# Altium schematic symbol library Contact group Gost.SchLib: 23 symbols
Pins are listed as number, name and electrical type; pins without a type are passive.

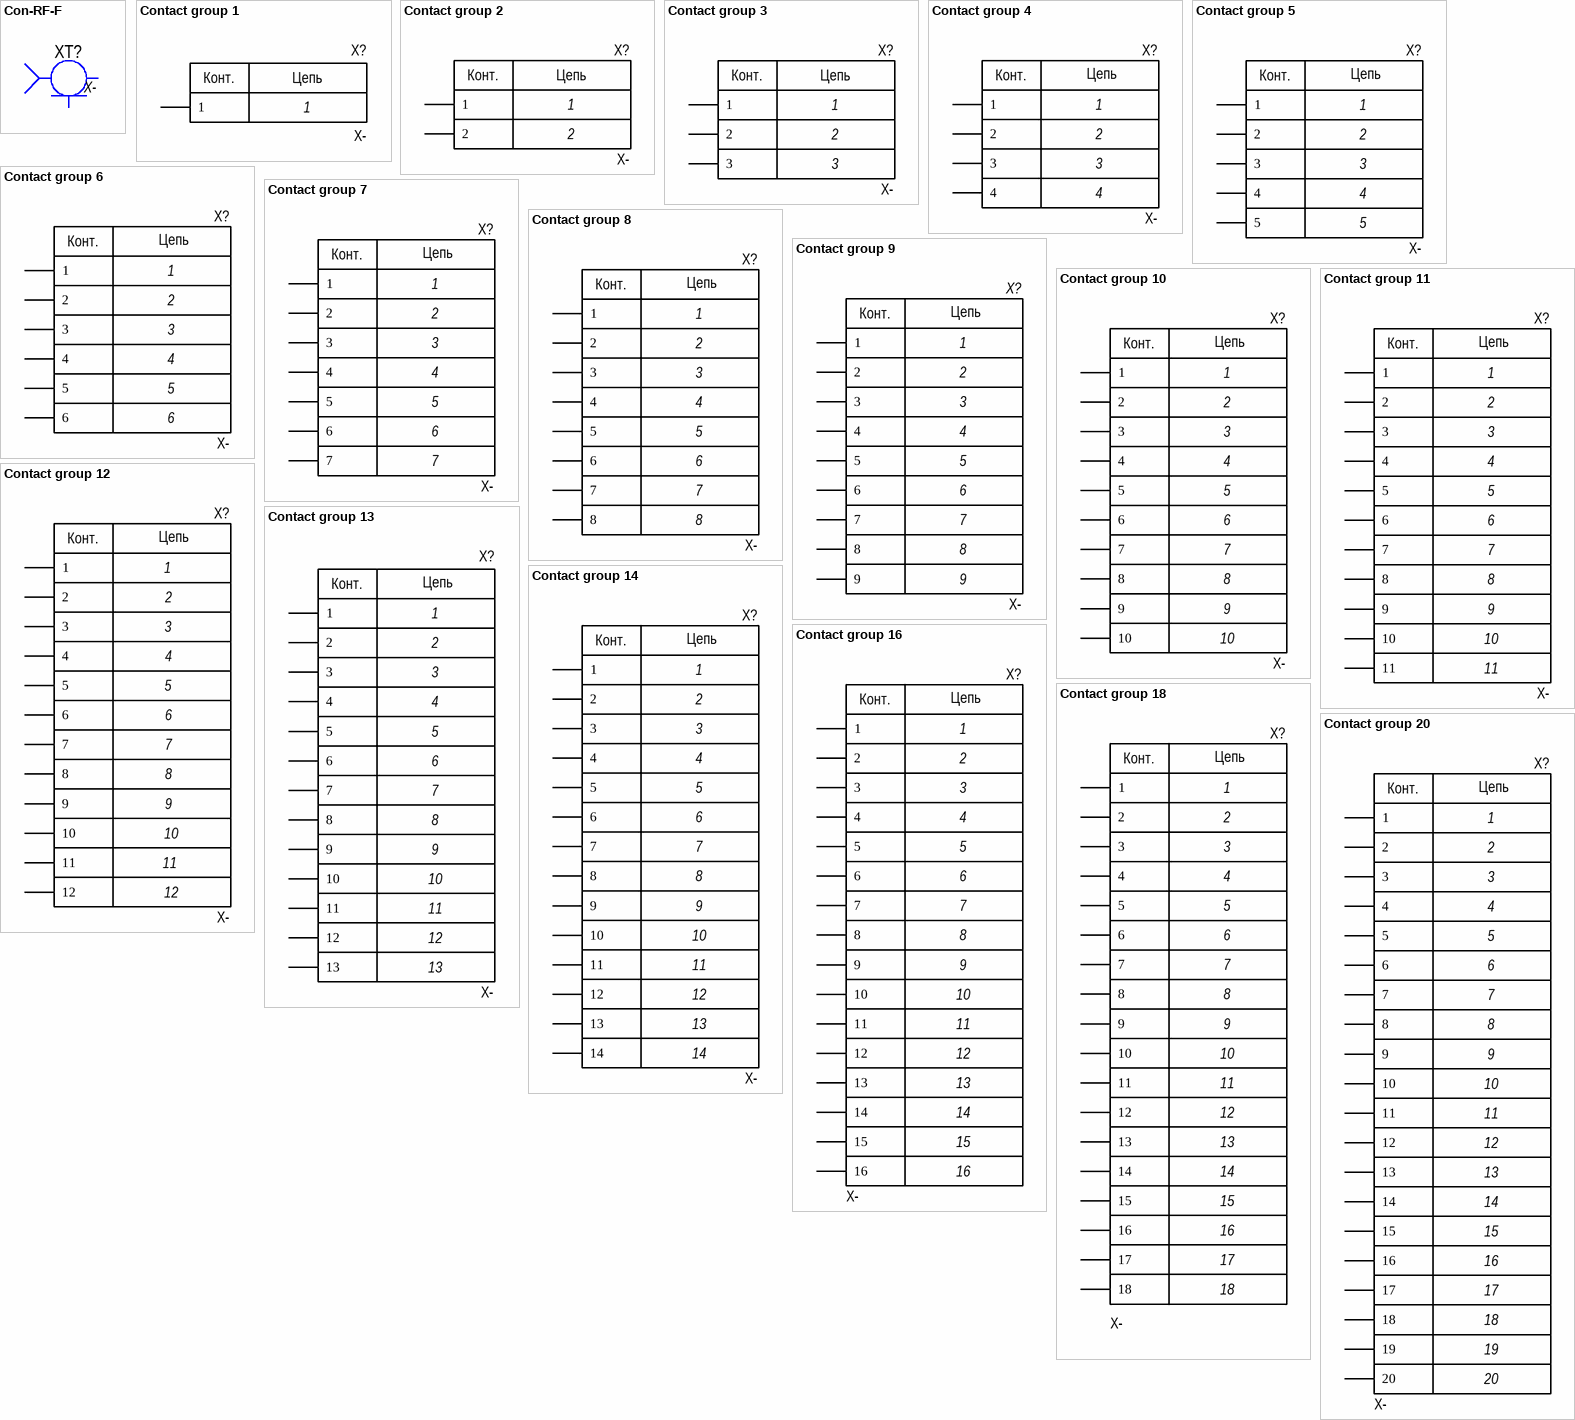
[diagram p0: symbols Con-RF-F to Contact group 20]

## Con-RF-F
designator XT?, comment X-
Mount_Type: Hand; STC_Type: Разъём; Type: Розетка; STC_Name: X-
footprint U.FL-R-SMT (U.FL SMT connector (Hirose))
footprint 70101511000
footprint SMA_TB
footprint SMA_TH_H
footprint SMA_TH_V
footprint SMA-901-10510-2
pins: 1 "Signal", 2 "Ground"

## Contact group 1
designator X?, comment X-  Parameter 1: 1
Mount_Type: Hand; STC_Type: Разъём; STC_Name: X-
pins: 1
text: Конт.; Цепь

## Contact group 2
designator X?, comment X-  Parameter 2: 2  Parameter 1: 1
Mount_Type: Hand; STC_Type: Разъём; STC_Name: X-
footprint MOLEX_353630260
footprint Wire_to_board x2
footprint XT60PW-M
footprint XT90PW-M
footprint XT60-M
footprint Molex_43650-0200
footprint XT30PW-M
footprint Nano-Fit 105313-1202
footprint Molex_35362-0250
footprint Molex-22057025
footprint Molex_105309-1102
footprint Molex_206832-0201
footprint JST-B02B-PASK-1
footprint Molex_MiniFit_172448-0002
footprint Molex_105313-1202
footprint XT30-M
footprint DF51KB-2P2-DS(805)
footprint 2EDGR-5.08-02P-14-00AH
pins: 1, 2
text: Конт.; Цепь

## Contact group 3
designator X?, comment X-  Parameter 3: 3  Parameter 2: 2  Parameter 1: 1
Mount_Type: Hand; STC_Type: Разъём; STC_Name: X-
footprint Wire_to_board x3
footprint Molex_35363-0360
footprint Molex_35363-0360 v2
footprint DF51K-3P-2DSA(805)
pins: 1, 2, 3
text: Конт.; Цепь

## Contact group 4
designator X?, comment X-  Parameter 4: 4  Parameter 3: 3  Parameter 2: 2  Parameter 1: 1
Mount_Type: Hand; STC_Type: Разъём; STC_Name: X-
footprint Molex_353630460
footprint Wire_to_board x4
footprint Molex_43650-0400
footprint Molex_43045-0423
footprint Nano-Fit 1053141304
footprint JST-B04B-PASK-1
footprint Molex_35362-0450
footprint JST-S04B-PASK-2
footprint PLD-4R
footprint Molex_105314-1204
footprint BM03B-AUHKS-GA-TB
footprint Molex_43045-0400/01/02/10
footprint DF51K-4P-2DS(805)
footprint DF51K-4P-2DSA(805)
footprint PLD-4
pins: 1, 2, 3, 4
text: Конт.; Цепь

## Contact group 5
designator X?, comment X-  Parameter 5: 5  Parameter 4: 4  Parameter 3: 3  Parameter 2: 2  Parameter 1: 1
Mount_Type: Hand; STC_Type: Разъём; STC_Name: X-
pins: 1, 2, 3, 4, 5
text: Конт.; Цепь

## Contact group 6
designator X?, comment X-  Parameter 6: 6  Parameter 5: 5  Parameter 4: 4  Parameter 3: 3  Parameter 2: 2  Parameter 1: 1
Mount_Type: Hand; STC_Type: Разъём; STC_Name: X-
footprint Molex_76829-0006
footprint Molex_87427-0602
footprint Molex_105314-1206
footprint Molex_353630660
footprint MINIUSB-DS1104
footprint plld-1.27-6s
footprint plld-2.54-6s
footprint G125-MH10605L1P
pins: 1, 2, 3, 4, 5, 6
text: Конт.; Цепь

## Contact group 7
designator X?, comment X-  Parameter 7: 7  Parameter 6: 6  Parameter 5: 5  Parameter 4: 4  Parameter 3: 3  Parameter 2: 2  Parameter 1: 1
Mount_Type: Hand; STC_Type: Разъём; STC_Name: X-
footprint PLS-7
pins: 1, 2, 3, 4, 5, 6, 7
text: Конт.; Цепь

## Contact group 8
designator X?, comment X-  Parameter 8: 8  Parameter 7: 7  Parameter 6: 6  Parameter 5: 5  Parameter 4: 4  Parameter 3: 3  Parameter 2: 2  Parameter 1: 1
Mount_Type: Hand; STC_Type: Разъём; STC_Name: X-
footprint Molex_35363-0860
footprint Molex_105314-1208
footprint MOLEX_MiniFit-2x4P
pins: 1, 2, 3, 4, 5, 6, 7, 8
text: Конт.; Цепь

## Contact group 9
designator X?, comment X-  Parameter 9: 9  Parameter 8: 8  Parameter 7: 7  Parameter 6: 6  Parameter 5: 5  Parameter 4: 4  Parameter 3: 3  Parameter 2: 2  Parameter 1: 1
Mount_Type: Hand; STC_Type: Разъём; STC_Name: X-
pins: 1, 2, 3, 4, 5, 6, 7, 8, 9
text: Конт.; Цепь

## Contact group 10
designator X?, comment X-  Parameter 9: 9  Parameter 8: 8  Parameter 7: 7  Parameter 6: 6  Parameter 5: 5  Parameter 4: 4  Parameter 3: 3  Parameter 2: 2  Parameter 10: 10  Parameter 1: 1
Mount_Type: Hand; STC_Type: Разъём; STC_Name: X-
footprint Molex_35363-1060
footprint BH-10 (DS1013-10S)
footprint MOLEX_MiniFit-2x10P
footprint Molex_105314-1210
footprint DF51K-10DP-2DSA(805)
pins: 1, 2, 3, 4, 5, 6, 7, 8, 9, 10
text: Конт.; Цепь

## Contact group 11
designator X?, comment X-  Parameter 11: 11  Parameter 9: 9  Parameter 8: 8  Parameter 7: 7  Parameter 6: 6  Parameter 5: 5  Parameter 4: 4  Parameter 3: 3  Parameter 2: 2  Parameter 10: 10  Parameter 1: 1
Mount_Type: Hand; STC_Type: Разъём; STC_Name: X-
pins: 1, 2, 3, 4, 5, 6, 7, 8, 9, 10, 11
text: Конт.; Цепь

## Contact group 12
designator X?, comment X-  Parameter 1: 1  Parameter 2: 2  Parameter 3: 3  Parameter 4: 4  Parameter 5: 5  Parameter 6: 6  Parameter 7: 7  Parameter 8: 8  Parameter 9: 9  Parameter 10: 10  Parameter 11: 11  Parameter 12: 12
Mount_Type: Hand; STC_Type: Разъём; STC_Name: X-
footprint MOLEX_87427-1202
footprint Molex_35363-1260
pins: 1, 2, 3, 4, 5, 6, 7, 8, 9, 10, 11, 12
text: Конт.; Цепь

## Contact group 13
designator X?, comment X-  Parameter 1: 1  Parameter 2: 2  Parameter 3: 3  Parameter 4: 4  Parameter 5: 5  Parameter 6: 6  Parameter 7: 7  Parameter 8: 8  Parameter 9: 9  Parameter 10: 10  Parameter 11: 11  Parameter 12: 12  Parameter 13: 13
Mount_Type: Hand; STC_Type: Разъём; STC_Name: X-
pins: 1, 2, 3, 4, 5, 6, 7, 8, 9, 10, 11, 12, 13
text: Конт.; Цепь

## Contact group 14
designator X?, comment X-  Parameter 14: 14  Parameter 13: 13  Parameter 12: 12  Parameter 11: 11  Parameter 9: 9  Parameter 8: 8  Parameter 7: 7  Parameter 6: 6  Parameter 5: 5  Parameter 4: 4  Parameter 3: 3  Parameter 2: 2  Parameter 10: 10  Parameter 1: 1
Mount_Type: Hand; STC_Type: Разъём; STC_Name: X-
footprint MOLEX_MiniFit-2x7P
footprint PLD-14
pins: 1, 2, 3, 4, 5, 6, 7, 8, 9, 10, 11, 12, 13, 14
text: Конт.; Цепь

## Contact group 16
designator X?, comment X-  Parameter 16: 16  Parameter 15: 15  Parameter 14: 14  Parameter 13: 13  Parameter 12: 12  Parameter 11: 11  Parameter 9: 9  Parameter 8: 8  Parameter 7: 7  Parameter 6: 6  Parameter 5: 5  Parameter 4: 4  Parameter 3: 3  Parameter 2: 2  Parameter 10: 10  Parameter 1: 1
Mount_Type: Hand; STC_Type: Разъём; STC_Name: X-
footprint MOLEX_MiniFit-2x8P
pins: 1, 2, 3, 4, 5, 6, 7, 8, 9, 10, 11, 12, 13, 14, 15, 16
text: Конт.; Цепь

## Contact group 18
designator X?, comment X-  Parameter 16: 16  Parameter 17: 17  Parameter 18: 18  Parameter 15: 15  Parameter 14: 14  Parameter 13: 13  Parameter 12: 12  Parameter 11: 11  Parameter 9: 9  Parameter 8: 8  Parameter 7: 7  Parameter 6: 6  Parameter 5: 5  Parameter 4: 4  Parameter 3: 3  Parameter 2: 2  Parameter 10: 10  Parameter 1: 1
Mount_Type: Hand; STC_Type: Разъём; STC_Name: X-
footprint Molex_901301218
pins: 1, 2, 3, 4, 5, 6, 7, 8, 9, 10, 11, 12, 13, 14, 15, 16, 17, 18
text: Конт.; Цепь

## Contact group 20
designator X?, comment X-  Parameter 16: 16  Parameter 17: 17  Parameter 18: 18  Parameter 19: 19  Parameter 20: 20  Parameter 15: 15  Parameter 14: 14  Parameter 13: 13  Parameter 12: 12  Parameter 11: 11  Parameter 9: 9  Parameter 8: 8  Parameter 7: 7  Parameter 6: 6  Parameter 5: 5  Parameter 4: 4  Parameter 3: 3  Parameter 2: 2  Parameter 10: 10  Parameter 1: 1
Mount_Type: Hand; STC_Type: Разъём; STC_Name: X-
footprint MOLEX_MiniFit-2x10P
footprint MOLEX_87427-2002
pins: 1, 2, 3, 4, 5, 6, 7, 8, 9, 10, 11, 12, 13, 14, 15, 16, 17, 18, 19, 20
text: Конт.; Цепь

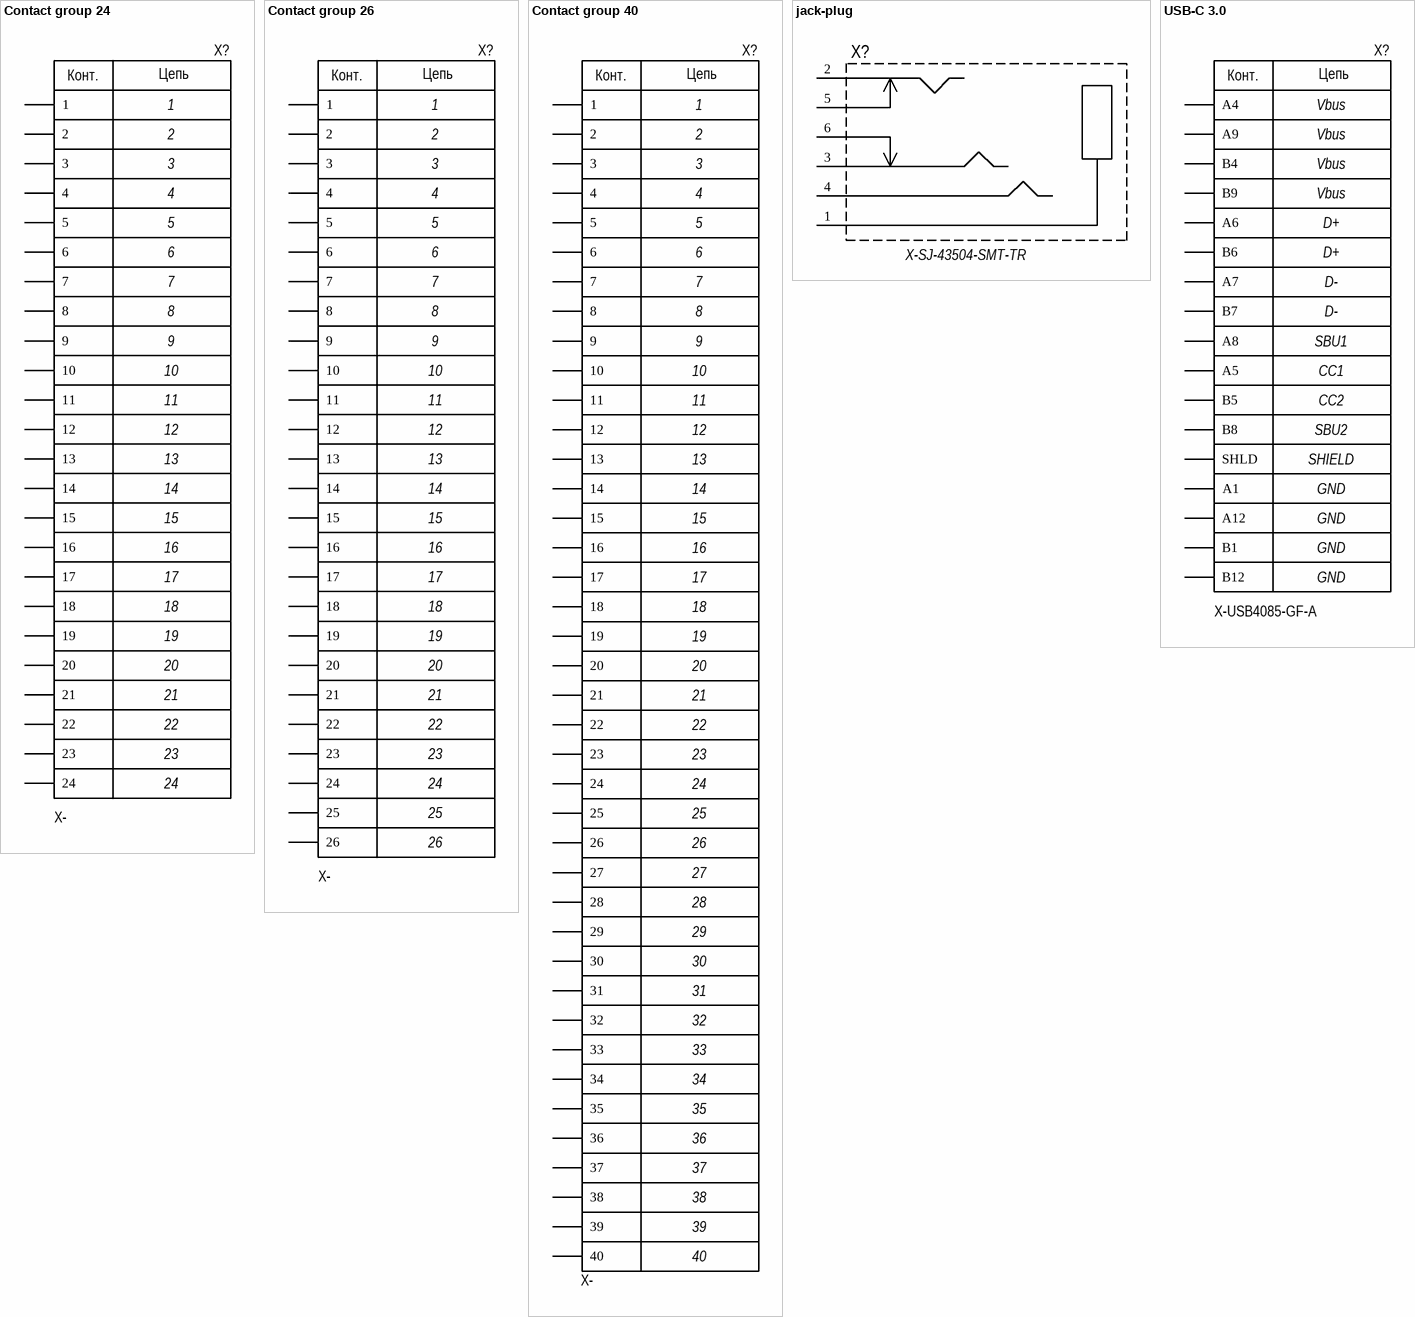
[diagram p1: symbols Contact group 24 to USB-C 3.0]

## Contact group 24
designator X?, comment X-  Parameter 16: 16  Parameter 17: 17  Parameter 18: 18  Parameter 19: 19  Parameter 20: 20  Parameter 21: 21  Parameter 24: 24  Parameter 22: 22  Parameter 23: 23  Parameter 15: 15  Parameter 14: 14  Parameter 13: 13  Parameter 12: 12  Parameter 11: 11  Parameter 9: 9  Parameter 8: 8  Parameter 7: 7  Parameter 6: 6  Parameter 5: 5  Parameter 4: 4  Parameter 3: 3  Parameter 2: 2  Parameter 10: 10  Parameter 1: 1
Mount_Type: Hand; STC_Type: Разъём; STC_Name: X-
footprint Micro-Fit 43045-2415
pins: 1, 2, 3, 4, 5, 6, 7, 8, 9, 10, 11, 12, 13, 14, 15, 16, 17, 18, 19, 20, 21, 22, 23, 24
text: Конт.; Цепь

## Contact group 26
designator X?, comment X-  Parameter 16: 16  Parameter 17: 17  Parameter 18: 18  Parameter 19: 19  Parameter 20: 20  Parameter 21: 21  Parameter 24: 24  Parameter 22: 22  Parameter 23: 23  Parameter 25: 25  Parameter 26: 26  Parameter 15: 15  Parameter 14: 14  Parameter 13: 13  Parameter 12: 12  Parameter 11: 11  Parameter 9: 9  Parameter 8: 8  Parameter 7: 7  Parameter 6: 6  Parameter 5: 5  Parameter 4: 4  Parameter 3: 3  Parameter 2: 2  Parameter 10: 10  Parameter 1: 1
Mount_Type: Hand; STC_Type: Разъём; STC_Name: X-
footprint M80-54024YY
pins: 1, 2, 3, 4, 5, 6, 7, 8, 9, 10, 11, 12, 13, 14, 15, 16, 17, 18, 19, 20, 21, 22, 23, 24, 25, 26
text: Конт.; Цепь

## Contact group 40
designator X?, comment X-  Parameter 40: 40  Parameter 39: 39  Parameter 38: 38  Parameter 37: 37  Parameter 36: 36  Parameter 35: 35  Parameter 34: 34  Parameter 33: 33  Parameter 30: 30  Parameter 32: 32  Parameter 31: 31  Parameter 29: 29  Parameter 28: 28  Parameter 27: 27  Parameter 16: 16  Parameter 17: 17  Parameter 18: 18  Parameter 19: 19  Parameter 20: 20  Parameter 21: 21  Parameter 24: 24  Parameter 22: 22  Parameter 23: 23  Parameter 25: 25  Parameter 26: 26  Parameter 15: 15  Parameter 14: 14  Parameter 13: 13  Parameter 12: 12  Parameter 11: 11  Parameter 9: 9  Parameter 8: 8  Parameter 7: 7  Parameter 6: 6  Parameter 5: 5  Parameter 4: 4  Parameter 3: 3  Parameter 2: 2  Parameter 10: 10  Parameter 1: 1
Mount_Type: Hand; STC_Type: Разъём; STC_Name: X-
footprint M20-7872042
footprint PLD-40
footprint BH-40 (DS1013-40S)
pins: 1, 2, 3, 4, 5, 6, 7, 8, 9, 10, 11, 12, 13, 14, 15, 16, 17, 18, 19, 20, 21, 22, 23, 24, 25, 26, 27, 28, 29, 30, 31, 32, 33, 34, 35, 36, 37, 38, 39, 40
text: Конт.; Цепь

## jack-plug
designator X?, comment X-SJ-43504-SMT-TR
Mount_Type: Hand; STC_Type: Разъём; Type: Розетка; STC_Name: X-SJ-43504-SMT-TR
footprint mini-jack-3.5 plug
pins: 1, 2, 3, 4, 5, 6

## USB-C 3.0
designator X?, comment X-USB4085-GF-A  Parameter 16: GND  Parameter 17: SHIELD  Parameter 15: Vbus  Parameter 14: SBU2  Parameter 13: D-  Parameter 12: D+  Parameter 11: CC2  Parameter 6: SBU1  Parameter 3: CC1
Mount_Type: Hand; STC_Type: Разъём; STC_Name: X-USB4085-GF-A; Parameter 9: GND; Parameter 8: GND; Parameter 7: Vbus; Parameter 5: D-; Parameter 4: D+; Parameter 2: Vbus; Parameter 10: Vbus; Parameter 1: GND
footprint USB4085-GF-A
pins: A1, A4, A5, A6, A7, A8, A9, A12, B1, B4, B5, B6, B7, B8, B9, B12, SHLD
text: Конт.; Цепь